# Altium schematic symbol library mag.SchLib: 11 symbols
Pins are listed as number, name and electrical type; pins without a type are passive.

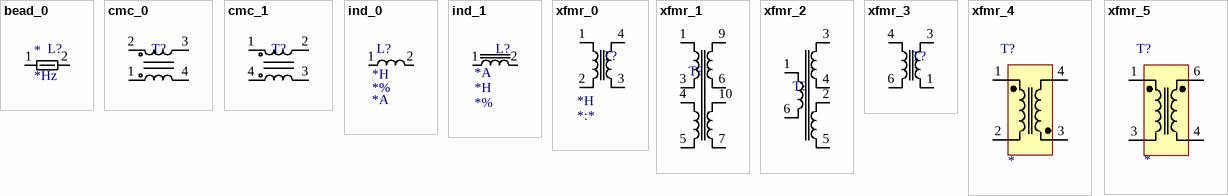
[diagram p0: symbols bead_0 to xfmr_5]

## bead_0
designator L?  Test Freq: *Hz  (hidden comment: *)
Ferrite Bead; Impedance: *
pins: 1, 2

## cmc_0
designator T?  (value not drawn)
Common Mode Choke
pins: 1, 2, 3, 4

## cmc_1
designator T?
Common Mode Choke
pins: 1, 2, 3, 4 34

## ind_0
designator L?  Inductance: *H  Tolerance: *%  Current Rating: *A  (hidden comment: *)
Inductor, no core; DCR: *
pins: 1, 2

## ind_1
designator L?  Current Rating: *A  Inductance: *H  Tolerance: *%  (hidden comment: *)
Inductor, core; DCR: *
footprint ind_hc3 (Cooper-Eaton HC3 Indcutors)
footprint PQ3218-3R3-70-T (PQ3218-3R3-70-T Inductor)
pins: 1, 2

## xfmr_0
designator T?  Primary Inductance: *H  Turns Ratio: *:*  (hidden comment: *)
Transformer, 4 terminal
pins: 1, 2, 3, 4

## xfmr_1
designator T?  (value not drawn)
Transformer, 8 terminal, 10 pos
footprint PA3855 (PA3855 and PA3856 Transformers)
pins: 1, 3, 4, 5, 6, 7, 9, 10

## xfmr_2
designator T?  (value not drawn)
Gate Drive Transformer TDK EP5 1:1:1
pins: 1, 2, 3, 4, 5, 6

## xfmr_3
designator T?  (value not drawn)
Gate Drive Transformer TDK EP5 1:1
pins: 1, 3, 4, 6

## xfmr_4
designator T?
Pulse Transformer; Manufacturer PN: *
pins: 1, 2, 3, 4

## xfmr_5
designator T?
Pulse Transformer; Manufacturer PN: *
pins: 1, 2 NC hidden, 3, 4, 5 NC hidden, 6